# Altium footprint library Oscillator_Vectron_VCC1-B2B-25M000_SMD.PcbLib: 1 footprints
Each footprint in its own frame and in the unit in brackets; x right, y up, seen from the top. Pads: shape width x height; smd on the part's side, far side on the other; paste and mask are expansions set on the pad; w line width, h text height; cw(c..) or ccw(c..) is an arc to the next point about the centre after c.
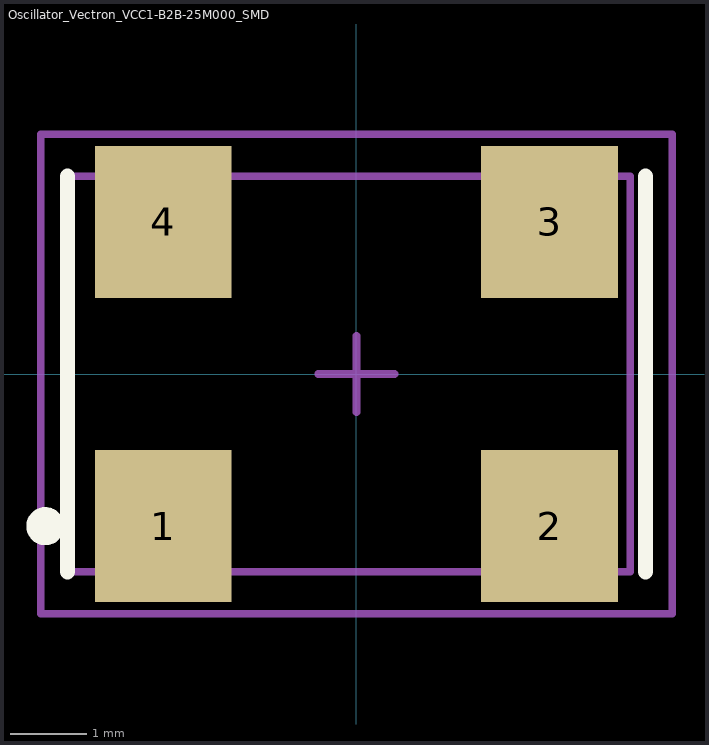
[diagram p0: the footprint, top view; thin cyan lines are the x and y axes]

## Oscillator_Vectron_VCC1-B2B-25M000_SMD [mm]
height 1.9
pads (4):
  rect 1.8x2 smd: 1(-2.54,-2) 2(2.54,-2) 3(2.54,2) 4(-2.54,2)
Top Overlay:
  circle w0.25: c-4.09,-2 r0.125
  lines w0.2: -3.8,-2.6 -3.8,1.2 ; -3.8,-1.2 -3.8,2.6 ; 3.8,-2.6 3.8,1.2 ; 3.8,-1.2 3.8,2.6
Mechanical 13:
  circle w0.1: c-2.65,1.65 r0.5
  lines w0.1: -3.8,-2.6 -3.8,2.6 3.6,2.6 3.6,-2.6 -3.8,-2.6
Mechanical 15:
  lines w0.1: -0.5,0 0.5,0 ; 0,-0.5 0,0.5 ; -4.15,-3.15 -4.15,3.15 4.15,3.15 4.15,-3.15 -4.15,-3.15
3D body: height 1.9, standoff 0, extent -3.6,-2.6 3.6,2.6